# Altium footprint library L8.PcbLib: 20 footprints (part 1 of 2)
Each footprint in its own frame and in the unit in brackets; x right, y up, seen from the top. Pads: shape width x height; smd on the part's side, far side on the other; paste and mask are expansions set on the pad; w line width, h text height; cw(c..) or ccw(c..) is an arc to the next point about the centre after c.
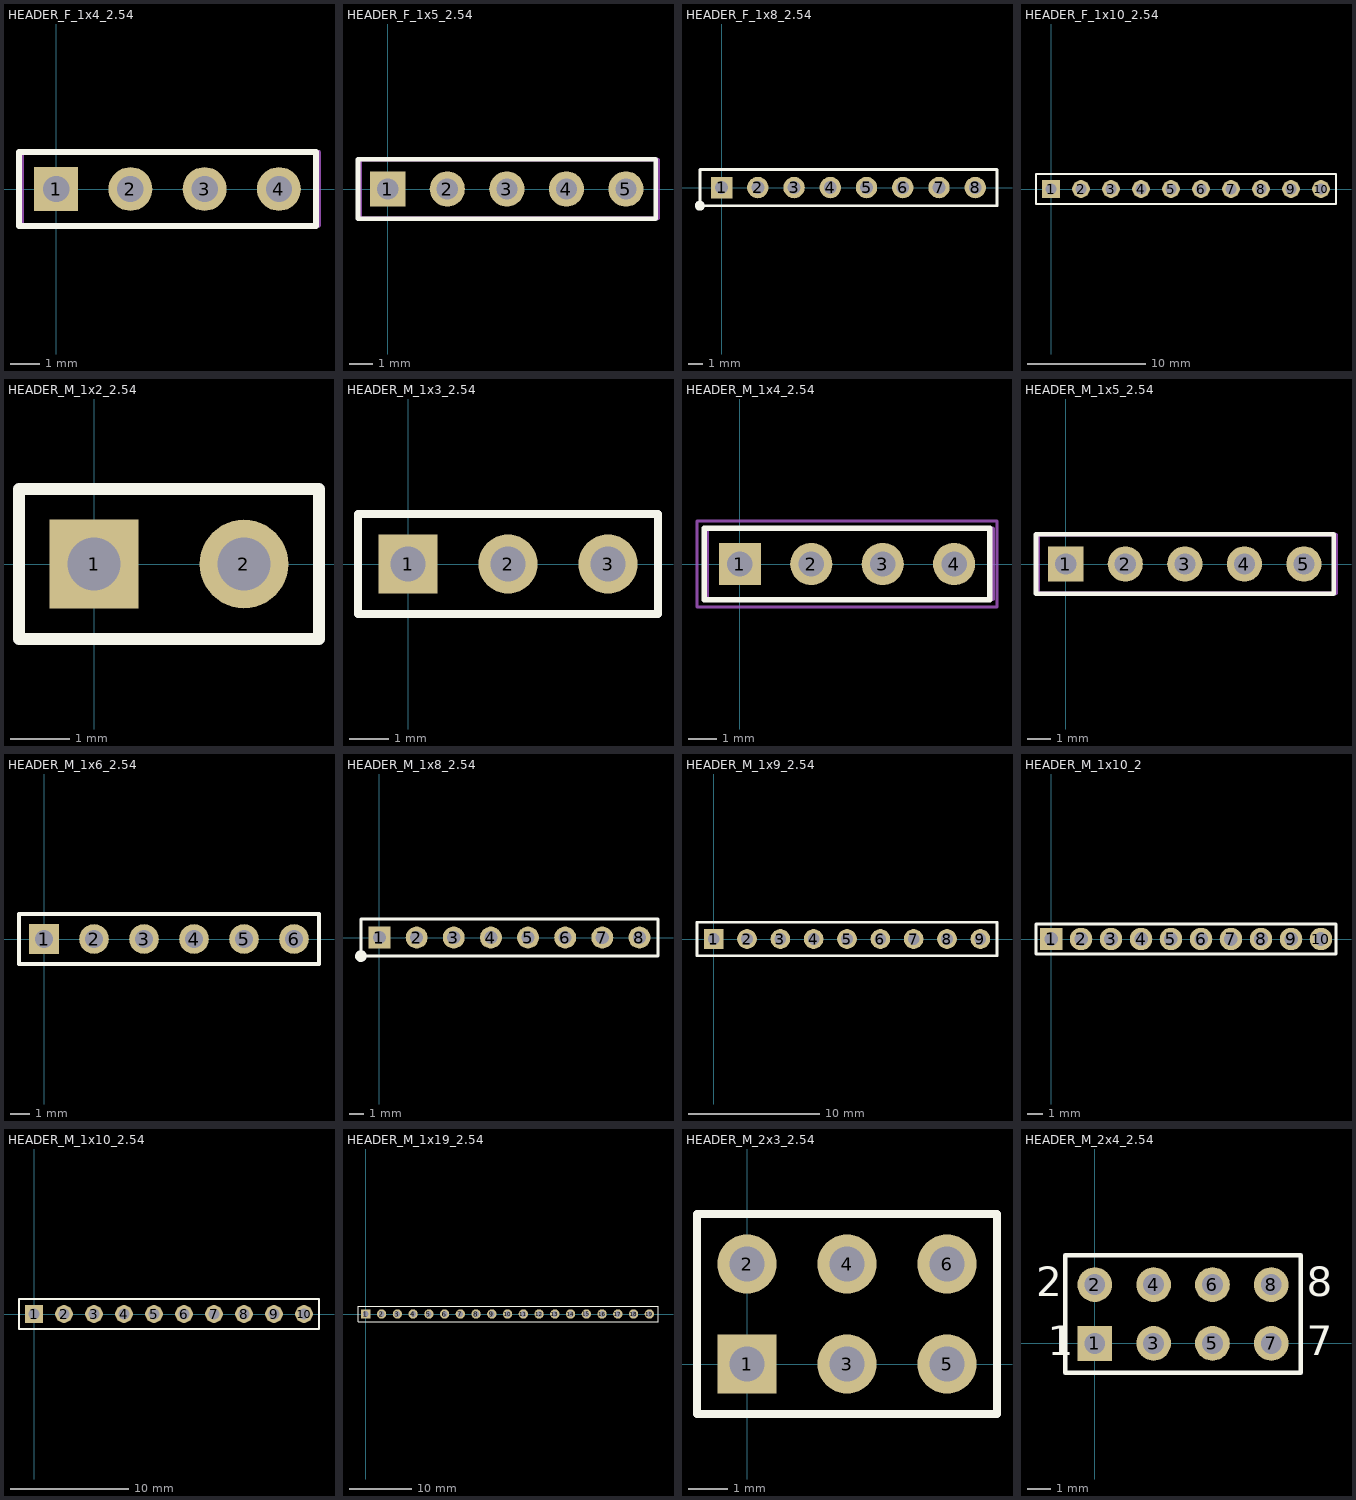
[diagram p0: the footprints below, top view; thin cyan lines are the x and y axes]

## HEADER_F_1x4_2.54 [mm] "Connector; Header; 4 Position; Male"
pads (4):
  rect 1.5x1.5 hole 0.9: 1(0,0)
  round 1.5 hole 0.9: 2(2.54,0) 3(5.08,0) 4(7.62,0)
Top Overlay:
  lines w0.2: -1.27,-1.27 -1.27,1.27 8.89,1.27 8.89,-1.27 -1.27,-1.27
Mechanical 13:
  lines w0.15: -1.17,-1.246 -1.17,1.253 8.99,1.253 8.99,-1.246 -1.17,-1.246
3D body "User Library-ZL262-4SG.step": height 8.5, standoff -3.05, extent -1.27,-1.23 8.89,1.27

## HEADER_F_1x5_2.54 [mm] "Connector; Header; 5 Position, Male"
pads (5):
  rect 1.5x1.5 hole 0.9: 1(0,0)
  round 1.5 hole 0.9: 2(2.54,0) 3(5.08,0) 4(7.62,0) 5(10.16,0)
Top Overlay:
  lines w0.2: -1.27,-1.27 11.43,-1.27 11.43,1.27 -1.27,1.27 -1.27,-1.27
Mechanical 13:
  lines w0.15: -1.17,-1.246 -1.17,1.253 11.53,1.253 11.53,-1.246 -1.17,-1.246
3D body "User Library-ZL262-5SG.step": height 8.4, standoff -3.15, extent -1.27,-1.23 11.43,1.27

## HEADER_F_1x8_2.54 [mm] "Connector; Header; 8 Position; Male-Female"
pads (8):
  rect 1.5x1.5 hole 0.9: 1(0,0)
  round 1.5 hole 0.9: 2(2.54,0) 3(5.08,0) 4(7.62,0) 5(10.16,0) 6(12.7,0) 7(15.24,0) 8(17.78,0)
Top Overlay:
  circle w0.3: c-1.524,-1.27 r0.2
  lines w0.2: -1.524,-1.27 -1.524,1.27 0.635,1.27 19.304,1.27 19.304,-1.27 -1.524,-1.27
3D body "User Library-Header _Fem_1X8.step": height 8.6, standoff -3.1, extent -1.524,-1.27 19.296,1.27

## HEADER_F_1x10_2.54 [mm] "Connector; Header; 10 Position; Male"
pads (10):
  rect 1.5x1.5 hole 0.9: 1(0,0)
  round 1.5 hole 0.9: 2(2.54,0) 3(5.08,0) 4(7.62,0) 5(10.16,0) 6(12.7,0) 7(15.24,0) 8(17.78,0) 9(20.32,0) 10(22.86,0)
Top Overlay:
  lines w0.2: -1.27,-1.27 24.13,-1.27 24.13,1.27 0.635,1.27 -1.27,1.27 -1.27,-1.27
3D body "User Library-ZL262-5SG.step": height 8.4, standoff -3.15, extent -1.27,-1.23 11.43,1.27
3D body "User Library-ZL262-5SG.step": height 8.4, standoff -3.15, extent 11.43,-1.23 24.13,1.27

## HEADER_M_1x2_2.54 [mm] "Connector; Header; 2 Position; Straight; Male"
pads (2):
  rect 1.5x1.5 hole 0.9: 1(0,0)
  round 1.5 hole 0.9: 2(2.54,0)
Top Overlay:
  lines w0.2: -1.27,-1.27 -1.27,1.27 3.81,1.27 3.81,-1.27 -1.27,-1.27
3D body "pin_header_aw140-eg-g02d.stp": height 8.2, standoff -3, extent -1.17,-1.246 3.91,1.253

## HEADER_M_1x3_2.54 [mm] "Connector; Header; 3 Position, Male"
pads (3):
  rect 1.5x1.5 hole 0.9: 1(0,0)
  round 1.5 hole 0.9: 2(2.54,0) 3(5.08,0)
Top Overlay:
  lines w0.2: -1.27,-1.27 -1.27,1.27 6.35,1.27 6.35,-1.27 -1.27,-1.27
3D body "pin_header_aw140-eg-g03d.stp": height 8.2, standoff -3, extent -1.17,-1.246 6.45,1.253

## HEADER_M_1x4_2.54 [mm] "Connector; Header; 4 Position; Male"
pads (4):
  rect 1.5x1.5 hole 0.9: 1(0,0)
  round 1.5 hole 0.9: 2(2.54,0) 3(5.08,0) 4(7.62,0)
Top Overlay:
  lines w0.2: -1.27,-1.27 -1.27,1.27 8.89,1.27 8.89,-1.27 -1.27,-1.27
Mechanical 2:
  lines w0.15: -1.17,-1.246 -1.17,1.253 8.99,1.253 8.99,-1.246 -1.17,-1.246
Mechanical 4:
  lines w0.1: -1.524,-1.524 9.144,-1.524 9.144,1.524 -1.524,1.524 -1.524,-1.524
3D body "pin_header_aw140-eg-g04d.stp": height 8.2, standoff -3, extent -1.17,-1.246 8.99,1.253

## HEADER_M_1x5_2.54 [mm] "Connector; Header; 5 Position, Male"
pads (5):
  rect 1.5x1.5 hole 0.9: 1(0,0)
  round 1.5 hole 0.9: 2(2.54,0) 3(5.08,0) 4(7.62,0) 5(10.16,0)
Top Overlay:
  lines w0.2: -1.27,-1.27 11.43,-1.27 11.43,1.27 -1.27,1.27 -1.27,-1.27
Mechanical 13:
  lines w0.15: -1.17,-1.246 -1.17,1.253 11.53,1.253 11.53,-1.246 -1.17,-1.246
3D body "pin_header_aw140-eg-g05d.stp": height 8.2, standoff -3, extent -1.17,-1.246 11.53,1.253

## HEADER_M_1x6_2.54 [mm] "Connector; Header; 6 Position, Male"
pads (6):
  rect 1.5x1.5 hole 0.9: 1(0,0)
  round 1.5 hole 0.9: 2(2.54,0) 3(5.08,0) 4(7.62,0) 5(10.16,0) 6(12.7,0)
Top Overlay:
  lines w0.2: -1.27,-1.27 -1.27,1.27 13.97,1.27 13.97,-1.27 -1.27,-1.27
3D body "6.stp": height 8.2, standoff -3, extent -1.17,-1.246 14.07,1.253

## HEADER_M_1x8_2.54 [mm] "Connector; Header; 8 Position; Male"
pads (8):
  rect 1.5x1.5 hole 0.9: 1(0,0)
  round 1.5 hole 0.9: 2(2.54,0) 3(5.08,0) 4(7.62,0) 5(10.16,0) 6(12.7,0) 7(15.24,0) 8(17.78,0)
Top Overlay:
  circle w0.4: c-1.27,-1.27 r0.2
  lines w0.2: -1.27,-1.27 -1.27,1.27 19.05,1.27 19.05,-1.27 -1.27,-1.27
3D body "88.stp": height 8.2, standoff -3, extent -1.17,-1.246 19.15,1.253

## HEADER_M_1x9_2.54 [mm] "Connector; Header; 9 Position; Male"
pads (9):
  rect 1.5x1.5 hole 0.9: 1(0,0)
  round 1.5 hole 0.9: 2(2.54,0) 3(5.08,0) 4(7.62,0) 5(10.16,0) 6(12.7,0) 7(15.24,0) 8(17.78,0) 9(20.32,0)
Top Overlay:
  lines w0.2: -1.27,-1.27 -1.27,1.27 21.59,1.27 21.59,-1.27 -1.27,-1.27
3D body "9.stp": height 8.2, standoff -3, extent -1.17,-1.246 21.69,1.253

## HEADER_M_1x10_2 [mm] "Connector; Header; 10 Position; Male"
pads (10):
  rect 1.5x1.5 hole 0.9: 1(0,0)
  round 1.5 hole 0.9: 2(2,0) 3(4,0) 4(6,0) 5(8,0) 6(10,0) 7(12,0) 8(14,0) 9(16,0) 10(18,0)
Top Overlay:
  lines w0.2: -1,-1 -1,1 19,1 19,-1 -1,-1
3D body "pcb_connector_880-70-010-10-001101.stp": height 6, standoff -2.8, extent -1,-1 19,1

## HEADER_M_1x10_2.54 [mm] "Connector; Header; 10 Position; Male"
pads (10):
  rect 1.5x1.5 hole 0.9: 1(0,0)
  round 1.5 hole 0.9: 2(2.54,0) 3(5.08,0) 4(7.62,0) 5(10.16,0) 6(12.7,0) 7(15.24,0) 8(17.78,0) 9(20.32,0) 10(22.86,0)
Top Overlay:
  lines w0.2: -1.27,-1.27 -1.27,1.27 0.635,1.27 24.13,1.27 24.13,-1.27 -1.27,-1.27
3D body "10.stp": height 8.2, standoff -3, extent -1.17,-1.246 24.23,1.253

## HEADER_M_1x19_2.54 [mm] "Connector; Header; 19 Position; Male"
pads (19):
  rect 1.5x1.5 hole 0.9: 1(0,0)
  round 1.5 hole 0.9: 2(2.54,0) 3(5.08,0) 4(7.62,0) 5(10.16,0) 6(12.7,0) 7(15.24,0) 8(17.78,0) 9(20.32,0) 10(22.86,0) 11(25.4,0) 12(27.94,0) 13(30.48,0) 14(33.02,0) 15(35.56,0) 16(38.1,0) 17(40.64,0) 18(43.18,0) 19(45.72,0)
Top Overlay:
  lines w0.2: -1.27,-1.27 47.117,-1.27 47.117,1.27 0.635,1.27 -1.27,1.27 -1.27,-1.27
3D body "9.stp": height 8.2, standoff -3, extent 24.23,-1.246 47.09,1.253
3D body "10.stp": height 8.2, standoff -3, extent -1.17,-1.246 24.23,1.253

## HEADER_M_2x3_2.54 [mm] "Connector; Header; 3x2 Position"
pads (6):
  rect 1.5x1.5 hole 0.9: 1(0,0)
  round 1.5 hole 0.9: 2(0,2.54) 3(2.54,0) 4(2.54,2.54) 5(5.08,0) 6(5.08,2.54)
Top Overlay:
  lines w0.2: 1.482,-1.27 6.35,-1.27 ; 6.35,-1.27 -1.27,-1.27 -1.27,3.81 6.35,3.81 6.35,-1.27
3D body "User Library-2x3 Header.step": height 8.5, standoff -3, extent -1.27,-1.23 6.35,3.81

## HEADER_M_2x4_2.54 [mm] "Connector; Header; 4x2 Position; Male"
pads (8):
  rect 1.5x1.5 hole 0.9: 1(0,0)
  round 1.5 hole 0.9: 2(0,2.54) 3(2.54,0) 4(2.54,2.54) 5(5.08,0) 6(5.08,2.54) 7(7.62,0) 8(7.62,2.54)
Top Overlay:
  lines w0.2: -1.27,-1.27 -1.27,3.81 8.89,3.81 8.89,-1.27 -1.27,-1.27
  text "8" at 9.144,2.032 h1.27
  text "7" at 9.144,-0.508 h1.27
  text "1" at -2.032,-0.508 h1.27
  text "2" at -2.54,2.032 h1.27
3D body "male.stp": height 8.5, standoff -3, extent -1.27,-1.27 8.89,3.81